# EAGLE library part TPD12S016-RKT (library Revolve)
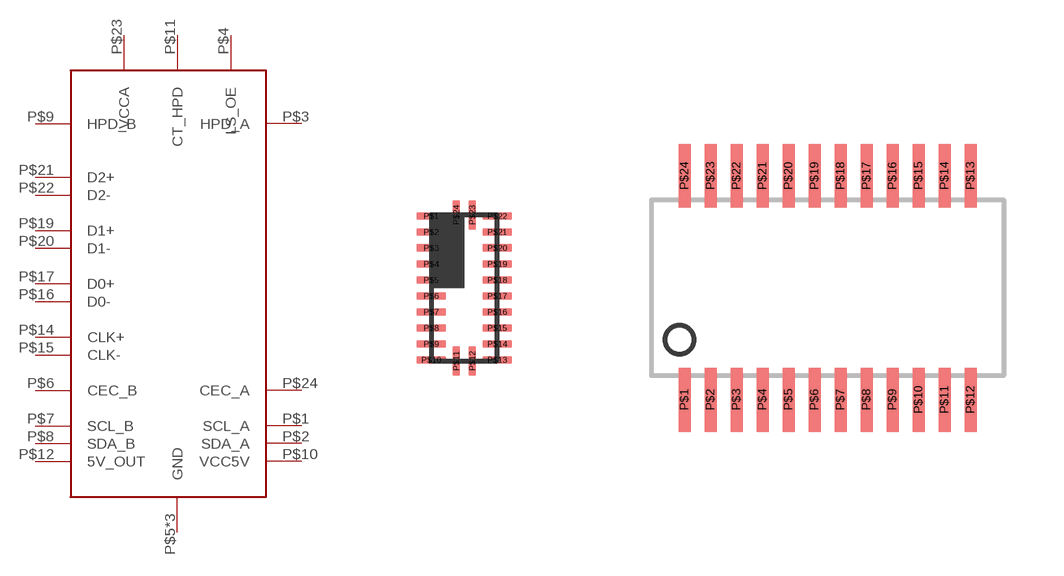
[diagram p11: symbol with the pads of UQFN-24; footprints UQFN-24, R-PDSO-G24]

Designator prefix -

## TPD12S016-RKTRKT  [UQFN-24]
P$1  SCL_A
P$2  SDA_A
P$3  HPD_A
P$4  LS_OE
P$5  GND
P$6  CEC_B
P$7  SCL_B
P$8  SDA_B
P$9  HPD_B
P$10  VCC5V
P$11  CT_HPD
P$12  5V_OUT
P$13  GND
P$14  CLK+
P$15  CLK-
P$16  D0-
P$17  D0+
P$18  GND
P$19  D1+
P$20  D1-
P$21  D2+
P$22  D2-
P$23  VCCA
P$24  CEC_A

## TPD12S016-RKT  [R-PDSO-G24]
P$1  CEC_A
P$2  SCL_A
P$3  SDA_A
P$4  HPD_A
P$5  LS_OE
P$6  GND
P$7  CEC_B
P$8  SCL_B
P$9  SDA_B
P$10  HPD_B
P$11  VCC5V
P$12  CT_HPD
P$13  5V_OUT
P$14  GND
P$15  CLK-
P$16  CLK+
P$17  D0-
P$18  D0+
P$19  GND
P$20  D1-
P$21  D1+
P$22  D2-
P$23  D2+
P$24  VCCA

## Footprint UQFN-24 (pad centres in mm)
smd 0.75 x 0.2: P$1 -0.825,1.8; P$2 -0.825,1.4; P$3 -0.825,1; P$4 -0.825,0.6; P$5 -0.825,0.2; P$6 -0.825,-0.2; P$7 -0.825,-0.6; P$8 -0.825,-1; P$9 -0.825,-1.4; P$10 -0.825,-1.8; P$13 0.825,-1.8; P$14 0.825,-1.4; P$15 0.825,-1; P$16 0.825,-0.6; P$17 0.825,-0.2; P$18 0.825,0.2; P$19 0.825,0.6; P$20 0.825,1; P$21 0.825,1.4; P$22 0.825,1.8
smd 0.2 x 0.75: P$11 -0.2,-1.825; P$12 0.2,-1.825; P$23 0.2,1.825; P$24 -0.2,1.825

## Footprint R-PDSO-G24 (pad centres in mm)
smd 0.3 x 1.6: P$1 -3.575,-2.8; P$2 -2.925,-2.8; P$3 -2.275,-2.8; P$4 -1.625,-2.8; P$5 -0.975,-2.8; P$6 -0.325,-2.8; P$7 0.325,-2.8; P$8 0.975,-2.8; P$9 1.625,-2.8; P$10 2.275,-2.8; P$11 2.925,-2.8; P$12 3.575,-2.8; P$13 3.575,2.8; P$14 2.925,2.8; P$15 2.275,2.8; P$16 1.625,2.8; P$17 0.975,2.8; P$18 0.325,2.8; P$19 -0.325,2.8; P$20 -0.975,2.8; P$21 -1.625,2.8; P$22 -2.275,2.8; P$23 -2.925,2.8; P$24 -3.575,2.8